# EAGLE library part IS42S16400J (library Rebel)
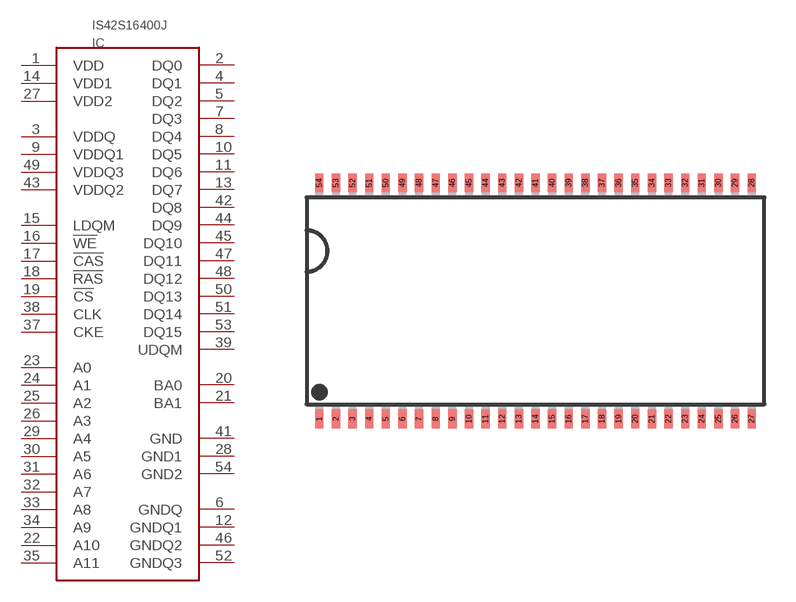
[diagram p29: symbol with the pads of TSOP54-400; footprint TSOP54-400]

Designator prefix IC

## IS42S16400J  [TSOP54-400]
1  VDD
2  DQ0
3  VDDQ
4  DQ1
5  DQ2
6  GNDQ
7  DQ3
8  DQ4
9  VDDQ1
10  DQ5
11  DQ6
12  GNDQ1
13  DQ7
14  VDD1
15  LDQM
16  !WE
17  !CAS
18  !RAS
19  !CS
20  BA0
21  BA1
22  A10
23  A0
24  A1
25  A2
26  A3
27  VDD2
28  GND1
29  A4
30  A5
31  A6
32  A7
33  A8
34  A9
35  A11
37  CKE
38  CLK
39  UDQM
41  GND
42  DQ8
43  VDDQ2
44  DQ9
45  DQ10
46  GNDQ2
47  DQ11
48  DQ12
49  VDDQ3
50  DQ13
51  DQ14
52  GNDQ3
53  DQ15
54  GND2

## Footprint TSOP54-400 (pad centres in mm)
54-Pin Plastic TSOP (400 mil) Source: http://download.micron.com/pdf/datasheets/dram/sdram/256MSDRAM.pdf
smd 0.4 x 0.9: 1 -10.4,-5.68; 2 -9.6,-5.68; 3 -8.8,-5.68; 4 -8,-5.68; 5 -7.2,-5.68; 6 -6.4,-5.68; 7 -5.6,-5.68; 8 -4.8,-5.68; 9 -4,-5.68; 10 -3.2,-5.68; 11 -2.4,-5.68; 12 -1.6,-5.68; 13 -0.8,-5.68; 14 0,-5.68; 15 0.8,-5.68; 16 1.6,-5.68; 17 2.4,-5.68; 18 3.2,-5.68; 19 4,-5.68; 20 4.8,-5.68; 21 5.6,-5.68; 22 6.4,-5.68; 23 7.2,-5.68; 24 8,-5.68; 25 8.8,-5.68; 26 9.6,-5.68; 27 10.4,-5.68; 28 10.4,5.68; 29 9.6,5.68; 30 8.8,5.68; 31 8,5.68; 32 7.2,5.68; 33 6.4,5.68; 34 5.6,5.68; 35 4.8,5.68; 36 4,5.68; 37 3.2,5.68; 38 2.4,5.68; 39 1.6,5.68; 40 0.8,5.68; 41 0,5.68; 42 -0.8,5.68; 43 -1.6,5.68; 44 -2.4,5.68; 45 -3.2,5.68; 46 -4,5.68; 47 -4.8,5.68; 48 -5.6,5.68; 49 -6.4,5.68; 50 -7.2,5.68; 51 -8,5.68; 52 -8.8,5.68; 53 -9.6,5.68; 54 -10.4,5.68